# EAGLE library part DST2001PH (library DST2001PH_REVB)
DST2001PH ILI9320 based TFT Display
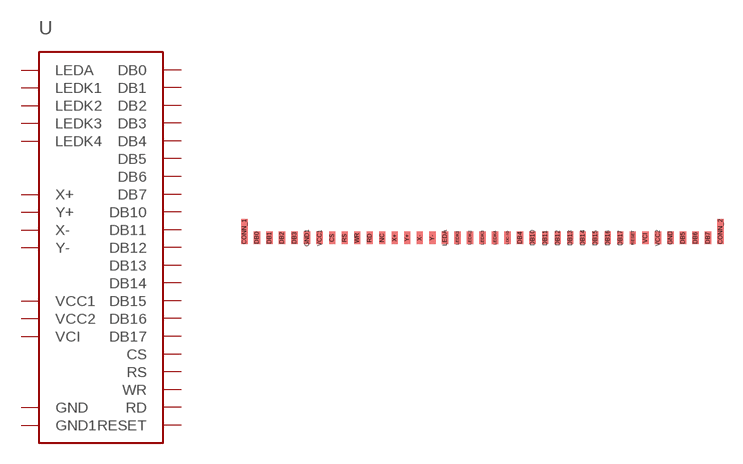
[diagram p0: symbol with the pads of REVB; footprint REVB]

Designator prefix -

## DST2001PHREVB2.8  [REVB]
CS  CS
DB0  DB0
DB1  DB1
DB2  DB2
DB3  DB3
DB4  DB4
DB5  DB5
DB6  DB6
DB7  DB7
DB10  DB10
DB11  DB11
DB12  DB12
DB13  DB13
DB14  DB14
DB15  DB15
DB16  DB16
DB17  DB17
GND  GND  pwr
GND1  GND1  pwr
LEDA  LEDA  pas
LEDK1  LEDK1  pas
LEDK2  LEDK2  pas
LEDK3  LEDK3  pas
LEDK4  LEDK4  pas
RD  RD
RESET  RESET
RS  RS
VCC1  VCC1  pwr
VCC2  VCC2  pwr
VCI  VCI  pwr
WR  WR
X+  X+  pas
X-  X-  pas
Y+  Y+  pas
Y-  Y-  pas

## Footprint REVB (pad centres in mm)
smd 0.5 x 2: CONN_1 0.25,1; CONN_2 38.25,1
smd 0.5 x 1: CS 7.25,0.5; DB0 1.25,0.5; DB1 2.25,0.5; DB2 3.25,0.5; DB3 4.25,0.5; DB4 22.25,0.5; DB5 35.25,0.5; DB6 36.25,0.5; DB7 37.25,0.5; DB10 23.25,0.5; DB11 24.25,0.5; DB12 25.25,0.5; DB13 26.25,0.5; DB14 27.25,0.5; DB15 28.25,0.5; DB16 29.25,0.5; DB17 30.25,0.5; GND 34.25,0.5; GND1 5.25,0.5; LDC-ID 21.25,0.5; LEDA 16.25,0.5; LEDK1 17.25,0.5; LEDK2 18.25,0.5; LEDK3 19.25,0.5; LEDK4 20.25,0.5; NC 11.25,0.5; RD 10.25,0.5; RESET 31.25,0.5; RS 8.25,0.5; VCC1 6.25,0.5; VCC2 33.25,0.5; VCI 32.25,0.5; WR 9.25,0.5; X+ 12.25,0.5; X- 14.25,0.5; Y+ 13.25,0.5; Y- 15.25,0.5